# Altium schematic symbol library LSF0204.SchLib: 1 symbol
Pins are listed as number, name and electrical type; pins without a type are passive.

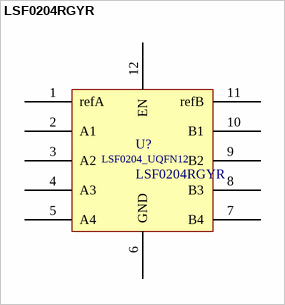
[diagram p0: symbol LSF0204RGYR]

## LSF0204RGYR
designator U?
Level Translator LSF0204RGYR UQFN-12 Package, 4 bit
pins: 1 refA, 2 A1, 3 A2, 4 A3, 5 A4, 6 GND, 7 B4, 8 B3, 9 B2, 10 B1, 11 refB, 12 EN
text: LSF0204_UQFN12